# EAGLE library part MIC2009A-2YM6TR (library Micrel_By_element14_Batch_1)
Fixed and adjustable Current Limiting Power Distribution Switches
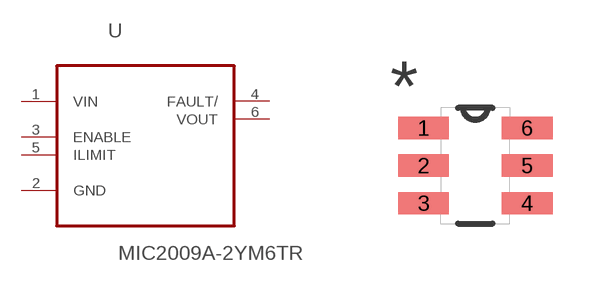
[diagram p7: symbol with the pads of SOT95P280X145-6N; footprint SOT95P280X145-6N]

Designator prefix U

## MIC2009A-2YM6TR (MPN: MIC2009A-2YM6TR; OC_FARNELL: 1924704; OC_NEWARK: 58T4893; PACKAGE: SOT-23-6; SUPPLIER: MICREL SEMICONDUCTOR)  [SOT95P280X145-6N]
1  VIN  in
2  GND  pas
3  ENABLE  in
4  FAULT/  out
5  ILIMIT  in
6  VOUT  out

## Footprint SOT95P280X145-6N (pad centres in mm)
smd 1.27 x 0.559: 1 -1.295,0.94; 2 -1.295,0; 3 -1.295,-0.94; 4 1.295,-0.94; 5 1.295,0; 6 1.295,0.94